# EAGLE library part TDA9264 (library pcaroli)
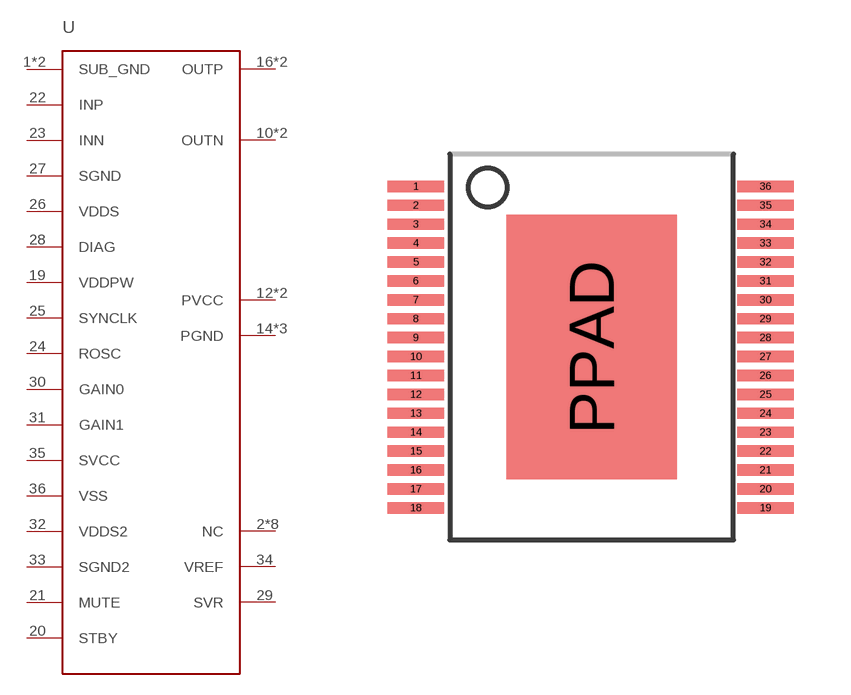
[diagram p1: symbol with the pads of TDA7492; footprint TDA7492]

Designator prefix -

## TDA9264  [TDA7492]
1  SUB_GND
2  NC
3  NC
4  NC
5  NC
6  NC
7  NC
8  NC
9  NC
10  OUTN
11  OUTN
12  PVCC
13  PVCC
14  PGND
15  PGND
16  OUTP
17  OUTP
18  PGND
19  VDDPW
20  STBY
21  MUTE
22  INP
23  INN
24  ROSC
25  SYNCLK
26  VDDS
27  SGND
28  DIAG
29  SVR
30  GAIN0
31  GAIN1
32  VDDS2
33  SGND2
34  VREF
35  SVCC
36  VSS
PPAD  SUB_GND

## Footprint TDA7492 (pad centres in mm)
smd 1.5 x 0.3: 1 -4.65,4.25; 2 -4.65,3.75; 3 -4.65,3.25; 4 -4.65,2.75; 5 -4.65,2.25; 6 -4.65,1.75; 7 -4.65,1.25; 8 -4.65,0.75; 9 -4.65,0.25; 10 -4.65,-0.25; 11 -4.65,-0.75; 12 -4.65,-1.25; 13 -4.65,-1.75; 14 -4.65,-2.25; 15 -4.65,-2.75; 16 -4.65,-3.25; 17 -4.65,-3.75; 18 -4.65,-4.25; 19 4.6,-4.25; 20 4.6,-3.75; 21 4.6,-3.25; 22 4.6,-2.75; 23 4.6,-2.25; 24 4.6,-1.75; 25 4.6,-1.25; 26 4.6,-0.75; 27 4.6,-0.25; 28 4.6,0.25; 29 4.6,0.75; 30 4.6,1.25; 31 4.6,1.75; 32 4.6,2.25; 33 4.6,2.75; 34 4.6,3.25; 35 4.6,3.75; 36 4.6,4.25
smd 4.5 x 7: PPAD 0,0